# Altium footprint library QFP_Sq_65P_Side_N.PcbLib: 15 footprints
Each footprint in its own frame and in the unit in brackets; x right, y up, seen from the top. Pads: shape width x height; smd on the part's side, far side on the other; paste and mask are expansions set on the pad; w line width, h text height; cw(c..) or ccw(c..) is an arc to the next point about the centre after c.
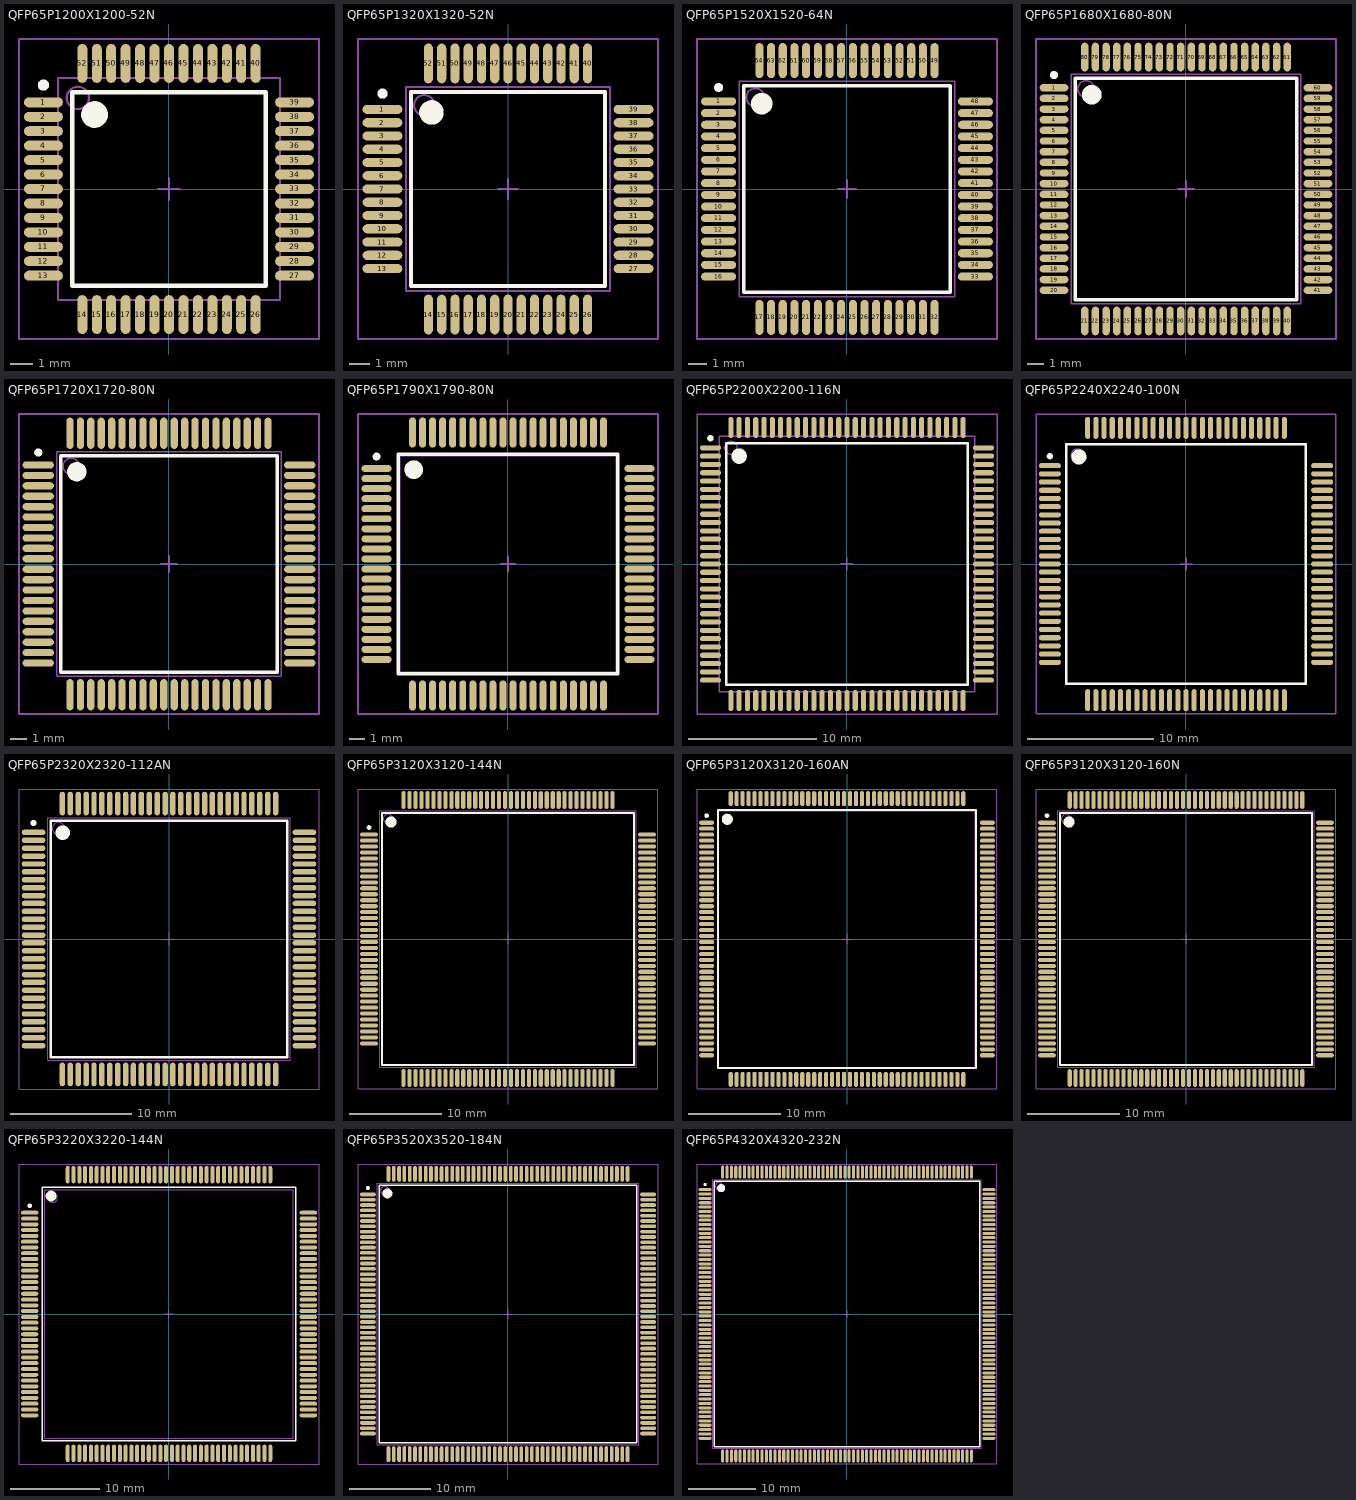
[diagram p0: the footprints below, top view; thin cyan lines are the x and y axes]

## QFP65P1200X1200-52N [mm] "QFP, 52-Leads, Body 10 x 10mm, Pitch 0.65mm, IPC Medium Density"
height 1.7
pads (52):
  oval 1.75x0.45 smd: 1(-5.65,3.9) 2(-5.65,3.25) 3(-5.65,2.6) 4(-5.65,1.95) 5(-5.65,1.3) 6(-5.65,0.65) 7(-5.65,0) 8(-5.65,-0.65) 9(-5.65,-1.3) 10(-5.65,-1.95) 11(-5.65,-2.6) 12(-5.65,-3.25) 13(-5.65,-3.9) 27(5.65,-3.9) 28(5.65,-3.25) 29(5.65,-2.6) 30(5.65,-1.95) 31(5.65,-1.3) 32(5.65,-0.65) 33(5.65,0) 34(5.65,0.65) 35(5.65,1.3) 36(5.65,1.95) 37(5.65,2.6) 38(5.65,3.25) 39(5.65,3.9)
  oval 0.45x1.75 smd: 14(-3.9,-5.65) 15(-3.25,-5.65) 16(-2.6,-5.65) 17(-1.95,-5.65) 18(-1.3,-5.65) 19(-0.65,-5.65) 20(0,-5.65) 21(0.65,-5.65) 22(1.3,-5.65) 23(1.95,-5.65) 24(2.6,-5.65) 25(3.25,-5.65) 26(3.9,-5.65) 40(3.9,5.65) 41(3.25,5.65) 42(2.6,5.65) 43(1.95,5.65) 44(1.3,5.65) 45(0.65,5.65) 46(0,5.65) 47(-0.65,5.65) 48(-1.3,5.65) 49(-1.95,5.65) 50(-2.6,5.65) 51(-3.25,5.65) 52(-3.9,5.65)
Top Overlay:
  circle w0.25: c-5.65,4.675 r0.125
  circle w0.6: c-3.35,3.35 r0.3
  lines w0.2: -4.35,-4.35 -4.35,4.35 4.35,4.35 4.35,-4.35 -4.35,-4.35
Mechanical 13:
  circle w0.1: c-4.1,4.1 r0.5
  lines w0.1: -5,-5 -5,5 5,5 5,-5 -5,-5
Mechanical 15:
  lines w0.1: -0.5,0 0.5,0 ; 0,-0.5 0,0.5 ; -6.75,-6.75 -6.75,6.75 6.75,6.75 6.75,-6.75 -6.75,-6.75
3D body: height 1.7, standoff 0, extent -5,-5 5,5

## QFP65P1320X1320-52N [mm] "QFP, 52-Leads, Body 10 x 10mm, Pitch 0.65mm, IPC Medium Density"
height 2.45
pads (52):
  oval 1.95x0.45 smd: 1(-6.15,3.9) 2(-6.15,3.25) 3(-6.15,2.6) 4(-6.15,1.95) 5(-6.15,1.3) 6(-6.15,0.65) 7(-6.15,0) 8(-6.15,-0.65) 9(-6.15,-1.3) 10(-6.15,-1.95) 11(-6.15,-2.6) 12(-6.15,-3.25) 13(-6.15,-3.9) 27(6.15,-3.9) 28(6.15,-3.25) 29(6.15,-2.6) 30(6.15,-1.95) 31(6.15,-1.3) 32(6.15,-0.65) 33(6.15,0) 34(6.15,0.65) 35(6.15,1.3) 36(6.15,1.95) 37(6.15,2.6) 38(6.15,3.25) 39(6.15,3.9)
  oval 0.45x1.95 smd: 14(-3.9,-6.15) 15(-3.25,-6.15) 16(-2.6,-6.15) 17(-1.95,-6.15) 18(-1.3,-6.15) 19(-0.65,-6.15) 20(0,-6.15) 21(0.65,-6.15) 22(1.3,-6.15) 23(1.95,-6.15) 24(2.6,-6.15) 25(3.25,-6.15) 26(3.9,-6.15) 40(3.9,6.15) 41(3.25,6.15) 42(2.6,6.15) 43(1.95,6.15) 44(1.3,6.15) 45(0.65,6.15) 46(0,6.15) 47(-0.65,6.15) 48(-1.3,6.15) 49(-1.95,6.15) 50(-2.6,6.15) 51(-3.25,6.15) 52(-3.9,6.15)
Top Overlay:
  circle w0.6: c-3.75,3.75 r0.3
  circle w0.25: c-6.15,4.675 r0.125
  lines w0.2: -4.75,-4.75 4.75,-4.75 4.75,4.75 -4.75,4.75 -4.75,-4.75
Mechanical 13:
  circle w0.1: c-4.1,4.1 r0.5
  lines w0.1: -5,-5 5,-5 5,5 -5,5 -5,-5
Mechanical 15:
  lines w0.1: -0.5,0 0.5,0 ; 0,-0.5 0,0.5 ; -7.35,-7.35 7.35,-7.35 7.35,7.35 -7.35,7.35 -7.35,-7.35
3D body: height 2.45, standoff 0, extent -5,-5 5,5

## QFP65P1520X1520-64N [mm] "QFP, 64-Leads, Body 12 x 12 mm, Pitch 0.65mm, IPC Medium Density"
height 2.45
pads (64):
  oval 1.95x0.45 smd: 1(-7.15,4.875) 2(-7.15,4.225) 3(-7.15,3.575) 4(-7.15,2.925) 5(-7.15,2.275) 6(-7.15,1.625) 7(-7.15,0.975) 8(-7.15,0.325) 9(-7.15,-0.325) 10(-7.15,-0.975) 11(-7.15,-1.625) 12(-7.15,-2.275) 13(-7.15,-2.925) 14(-7.15,-3.575) 15(-7.15,-4.225) 16(-7.15,-4.875) 33(7.15,-4.875) 34(7.15,-4.225) 35(7.15,-3.575) 36(7.15,-2.925) 37(7.15,-2.275) 38(7.15,-1.625) 39(7.15,-0.975) 40(7.15,-0.325) 41(7.15,0.325) 42(7.15,0.975) 43(7.15,1.625) 44(7.15,2.275) 45(7.15,2.925) 46(7.15,3.575) 47(7.15,4.225) 48(7.15,4.875)
  oval 0.45x1.95 smd: 17(-4.875,-7.15) 18(-4.225,-7.15) 19(-3.575,-7.15) 20(-2.925,-7.15) 21(-2.275,-7.15) 22(-1.625,-7.15) 23(-0.975,-7.15) 24(-0.325,-7.15) 25(0.325,-7.15) 26(0.975,-7.15) 27(1.625,-7.15) 28(2.275,-7.15) 29(2.925,-7.15) 30(3.575,-7.15) 31(4.225,-7.15) 32(4.875,-7.15) 49(4.875,7.15) 50(4.225,7.15) 51(3.575,7.15) 52(2.925,7.15) 53(2.275,7.15) 54(1.625,7.15) 55(0.975,7.15) 56(0.325,7.15) 57(-0.325,7.15) 58(-0.975,7.15) 59(-1.625,7.15) 60(-2.275,7.15) 61(-2.925,7.15) 62(-3.575,7.15) 63(-4.225,7.15) 64(-4.875,7.15)
Top Overlay:
  circle w0.6: c-4.75,4.75 r0.3
  circle w0.25: c-7.15,5.65 r0.125
  lines w0.2: -5.75,-5.75 5.75,-5.75 5.75,5.75 -5.75,5.75 -5.75,-5.75
Mechanical 13:
  circle w0.1: c-5.1,5.1 r0.5
  lines w0.1: -6,-6 6,-6 6,6 -6,6 -6,-6
Mechanical 15:
  lines w0.1: -0.5,0 0.5,0 ; 0,-0.5 0,0.5 ; -8.35,-8.35 8.35,-8.35 8.35,8.35 -8.35,8.35 -8.35,-8.35
3D body: height 2.45, standoff 0, extent -6,-6 6,6

## QFP65P1680X1680-80N [mm] "80-Pin Quad Flat Pack 0.65 mm Pitch"
height 3.05
pads (80):
  oval 1.75x0.45 smd: 1(-8.05,6.175) 2(-8.05,5.525) 3(-8.05,4.875) 4(-8.05,4.225) 5(-8.05,3.575) 6(-8.05,2.925) 7(-8.05,2.275) 8(-8.05,1.625) 9(-8.05,0.975) 10(-8.05,0.325) 11(-8.05,-0.325) 12(-8.05,-0.975) 13(-8.05,-1.625) 14(-8.05,-2.275) 15(-8.05,-2.925) 16(-8.05,-3.575) 17(-8.05,-4.225) 18(-8.05,-4.875) 19(-8.05,-5.525) 20(-8.05,-6.175) 41(8.05,-6.175) 42(8.05,-5.525) 43(8.05,-4.875) 44(8.05,-4.225) 45(8.05,-3.575) 46(8.05,-2.925) 47(8.05,-2.275) 48(8.05,-1.625) 49(8.05,-0.975) 50(8.05,-0.325) 51(8.05,0.325) 52(8.05,0.975) 53(8.05,1.625) 54(8.05,2.275) 55(8.05,2.925) 56(8.05,3.575) 57(8.05,4.225) 58(8.05,4.875) 59(8.05,5.525) 60(8.05,6.175)
  oval 0.45x1.75 smd: 21(-6.175,-8.05) 22(-5.525,-8.05) 23(-4.875,-8.05) 24(-4.225,-8.05) 25(-3.575,-8.05) 26(-2.925,-8.05) 27(-2.275,-8.05) 28(-1.625,-8.05) 29(-0.975,-8.05) 30(-0.325,-8.05) 31(0.325,-8.05) 32(0.975,-8.05) 33(1.625,-8.05) 34(2.275,-8.05) 35(2.925,-8.05) 36(3.575,-8.05) 37(4.225,-8.05) 38(4.875,-8.05) 39(5.525,-8.05) 40(6.175,-8.05) 61(6.175,8.05) 62(5.525,8.05) 63(4.875,8.05) 64(4.225,8.05) 65(3.575,8.05) 66(2.925,8.05) 67(2.275,8.05) 68(1.625,8.05) 69(0.975,8.05) 70(0.325,8.05) 71(-0.325,8.05) 72(-0.975,8.05) 73(-1.625,8.05) 74(-2.275,8.05) 75(-2.925,8.05) 76(-3.575,8.05) 77(-4.225,8.05) 78(-4.875,8.05) 79(-5.525,8.05) 80(-6.175,8.05)
Top Overlay:
  circle w0.6: c-5.75,5.75 r0.3
  circle w0.25: c-8.05,6.95 r0.125
  lines w0.2: -6.75,-6.75 6.75,-6.75 6.75,6.75 -6.75,6.75 -6.75,-6.75
Mechanical 13:
  circle w0.1: c-6.1,6.1 r0.5
  lines w0.1: -7,-7 7,-7 7,7 -7,7 -7,-7
Mechanical 15:
  lines w0.1: -0.5,0 0.5,0 ; 0,-0.5 0,0.5 ; -9.15,-9.15 9.15,-9.15 9.15,9.15 -9.15,9.15 -9.15,-9.15
3D body: height 3.05, standoff 0, extent -7,-7 7,7

## QFP65P1720X1720-80N [mm] "QFP, 80-Leads, Body 14 x 14mm, Pitch 0.65mm, IPC Medium Density"
height 2.45
pads (80):
  oval 1.95x0.45 smd: 1(-8.15,6.175) 2(-8.15,5.525) 3(-8.15,4.875) 4(-8.15,4.225) 5(-8.15,3.575) 6(-8.15,2.925) 7(-8.15,2.275) 8(-8.15,1.625) 9(-8.15,0.975) 10(-8.15,0.325) 11(-8.15,-0.325) 12(-8.15,-0.975) 13(-8.15,-1.625) 14(-8.15,-2.275) 15(-8.15,-2.925) 16(-8.15,-3.575) 17(-8.15,-4.225) 18(-8.15,-4.875) 19(-8.15,-5.525) 20(-8.15,-6.175) 41(8.15,-6.175) 42(8.15,-5.525) 43(8.15,-4.875) 44(8.15,-4.225) 45(8.15,-3.575) 46(8.15,-2.925) 47(8.15,-2.275) 48(8.15,-1.625) 49(8.15,-0.975) 50(8.15,-0.325) 51(8.15,0.325) 52(8.15,0.975) 53(8.15,1.625) 54(8.15,2.275) 55(8.15,2.925) 56(8.15,3.575) 57(8.15,4.225) 58(8.15,4.875) 59(8.15,5.525) 60(8.15,6.175)
  oval 0.45x1.95 smd: 21(-6.175,-8.15) 22(-5.525,-8.15) 23(-4.875,-8.15) 24(-4.225,-8.15) 25(-3.575,-8.15) 26(-2.925,-8.15) 27(-2.275,-8.15) 28(-1.625,-8.15) 29(-0.975,-8.15) 30(-0.325,-8.15) 31(0.325,-8.15) 32(0.975,-8.15) 33(1.625,-8.15) 34(2.275,-8.15) 35(2.925,-8.15) 36(3.575,-8.15) 37(4.225,-8.15) 38(4.875,-8.15) 39(5.525,-8.15) 40(6.175,-8.15) 61(6.175,8.15) 62(5.525,8.15) 63(4.875,8.15) 64(4.225,8.15) 65(3.575,8.15) 66(2.925,8.15) 67(2.275,8.15) 68(1.625,8.15) 69(0.975,8.15) 70(0.325,8.15) 71(-0.325,8.15) 72(-0.975,8.15) 73(-1.625,8.15) 74(-2.275,8.15) 75(-2.925,8.15) 76(-3.575,8.15) 77(-4.225,8.15) 78(-4.875,8.15) 79(-5.525,8.15) 80(-6.175,8.15)
Top Overlay:
  circle w0.6: c-5.75,5.75 r0.3
  circle w0.25: c-8.15,6.95 r0.125
  lines w0.2: -6.75,-6.75 6.75,-6.75 6.75,6.75 -6.75,6.75 -6.75,-6.75
Mechanical 13:
  circle w0.1: c-6.1,6.1 r0.5
  lines w0.1: -7,-7 7,-7 7,7 -7,7 -7,-7
Mechanical 15:
  lines w0.1: -0.5,0 0.5,0 ; 0,-0.5 0,0.5 ; -9.35,-9.35 9.35,-9.35 9.35,9.35 -9.35,9.35 -9.35,-9.35
3D body: height 2.45, standoff 0, extent -7,-7 7,7

## QFP65P1790X1790-80N [mm] "QFP, 80-Leads, Body 14 x 14mm, Pitch 0.65mm, IPC Medium Density"
height 3.4
pads (80):
  oval 1.95x0.45 smd: 1(-8.5,6.175) 2(-8.5,5.525) 3(-8.5,4.875) 4(-8.5,4.225) 5(-8.5,3.575) 6(-8.5,2.925) 7(-8.5,2.275) 8(-8.5,1.625) 9(-8.5,0.975) 10(-8.5,0.325) 11(-8.5,-0.325) 12(-8.5,-0.975) 13(-8.5,-1.625) 14(-8.5,-2.275) 15(-8.5,-2.925) 16(-8.5,-3.575) 17(-8.5,-4.225) 18(-8.5,-4.875) 19(-8.5,-5.525) 20(-8.5,-6.175) 41(8.5,-6.175) 42(8.5,-5.525) 43(8.5,-4.875) 44(8.5,-4.225) 45(8.5,-3.575) 46(8.5,-2.925) 47(8.5,-2.275) 48(8.5,-1.625) 49(8.5,-0.975) 50(8.5,-0.325) 51(8.5,0.325) 52(8.5,0.975) 53(8.5,1.625) 54(8.5,2.275) 55(8.5,2.925) 56(8.5,3.575) 57(8.5,4.225) 58(8.5,4.875) 59(8.5,5.525) 60(8.5,6.175)
  oval 0.45x1.95 smd: 21(-6.175,-8.5) 22(-5.525,-8.5) 23(-4.875,-8.5) 24(-4.225,-8.5) 25(-3.575,-8.5) 26(-2.925,-8.5) 27(-2.275,-8.5) 28(-1.625,-8.5) 29(-0.975,-8.5) 30(-0.325,-8.5) 31(0.325,-8.5) 32(0.975,-8.5) 33(1.625,-8.5) 34(2.275,-8.5) 35(2.925,-8.5) 36(3.575,-8.5) 37(4.225,-8.5) 38(4.875,-8.5) 39(5.525,-8.5) 40(6.175,-8.5) 61(6.175,8.5) 62(5.525,8.5) 63(4.875,8.5) 64(4.225,8.5) 65(3.575,8.5) 66(2.925,8.5) 67(2.275,8.5) 68(1.625,8.5) 69(0.975,8.5) 70(0.325,8.5) 71(-0.325,8.5) 72(-0.975,8.5) 73(-1.625,8.5) 74(-2.275,8.5) 75(-2.925,8.5) 76(-3.575,8.5) 77(-4.225,8.5) 78(-4.875,8.5) 79(-5.525,8.5) 80(-6.175,8.5)
Top Overlay:
  circle w0.6: c-6.1,6.1 r0.3
  circle w0.25: c-8.5,6.95 r0.125
  lines w0.2: -7.1,-7.1 7.1,-7.1 7.1,7.1 -7.1,7.1 -7.1,-7.1
Mechanical 13:
  circle w0.1: c-6.1,6.1 r0.5
  lines w0.1: -7,-7 7,-7 7,7 -7,7 -7,-7
Mechanical 15:
  lines w0.1: -0.5,0 0.5,0 ; 0,-0.5 0,0.5 ; -9.7,-9.7 9.7,-9.7 9.7,9.7 -9.7,9.7 -9.7,-9.7
3D body: height 3.4, standoff 0, extent -7,-7 7,7

## QFP65P2200X2200-116N [mm] "116-Pin Quad Flat Pack 0.65 mm Pitch"
height 1.7
pads (116):
  oval 1.65x0.4 smd: 1(-10.7,9.1) 2(-10.7,8.45) 3(-10.7,7.8) 4(-10.7,7.15) 5(-10.7,6.5) 6(-10.7,5.85) 7(-10.7,5.2) 8(-10.7,4.55) 9(-10.7,3.9) 10(-10.7,3.25) 11(-10.7,2.6) 12(-10.7,1.95) 13(-10.7,1.3) 14(-10.7,0.65) 15(-10.7,0) 16(-10.7,-0.65) 17(-10.7,-1.3) 18(-10.7,-1.95) 19(-10.7,-2.6) 20(-10.7,-3.25) 21(-10.7,-3.9) 22(-10.7,-4.55) 23(-10.7,-5.2) 24(-10.7,-5.85) 25(-10.7,-6.5) 26(-10.7,-7.15) 27(-10.7,-7.8) 28(-10.7,-8.45) 29(-10.7,-9.1) 59(10.7,-9.1) 60(10.7,-8.45) 61(10.7,-7.8) 62(10.7,-7.15) 63(10.7,-6.5) 64(10.7,-5.85) 65(10.7,-5.2) 66(10.7,-4.55) 67(10.7,-3.9) 68(10.7,-3.25) 69(10.7,-2.6) 70(10.7,-1.95) 71(10.7,-1.3) 72(10.7,-0.65) 73(10.7,0) 74(10.7,0.65) 75(10.7,1.3) 76(10.7,1.95) 77(10.7,2.6) 78(10.7,3.25) 79(10.7,3.9) 80(10.7,4.55) 81(10.7,5.2) 82(10.7,5.85) 83(10.7,6.5) 84(10.7,7.15) 85(10.7,7.8) 86(10.7,8.45) 87(10.7,9.1)
  oval 0.4x1.65 smd: 30(-9.1,-10.7) 31(-8.45,-10.7) 32(-7.8,-10.7) 33(-7.15,-10.7) 34(-6.5,-10.7) 35(-5.85,-10.7) 36(-5.2,-10.7) 37(-4.55,-10.7) 38(-3.9,-10.7) 39(-3.25,-10.7) 40(-2.6,-10.7) 41(-1.95,-10.7) 42(-1.3,-10.7) 43(-0.65,-10.7) 44(0,-10.7) 45(0.65,-10.7) 46(1.3,-10.7) 47(1.95,-10.7) 48(2.6,-10.7) 49(3.25,-10.7) 50(3.9,-10.7) 51(4.55,-10.7) 52(5.2,-10.7) 53(5.85,-10.7) 54(6.5,-10.7) 55(7.15,-10.7) 56(7.8,-10.7) 57(8.45,-10.7) 58(9.1,-10.7) 88(9.1,10.7) 89(8.45,10.7) 90(7.8,10.7) 91(7.15,10.7) 92(6.5,10.7) 93(5.85,10.7) 94(5.2,10.7) 95(4.55,10.7) 96(3.9,10.7) 97(3.25,10.7) 98(2.6,10.7) 99(1.95,10.7) 100(1.3,10.7) 101(0.65,10.7) 102(0,10.7) 103(-0.65,10.7) 104(-1.3,10.7) 105(-1.95,10.7) 106(-2.6,10.7) 107(-3.25,10.7) 108(-3.9,10.7) 109(-4.55,10.7) 110(-5.2,10.7) 111(-5.85,10.7) 112(-6.5,10.7) 113(-7.15,10.7) 114(-7.8,10.7) 115(-8.45,10.7) 116(-9.1,10.7)
Top Overlay:
  circle w0.6: c-8.45,8.45 r0.3
  circle w0.25: c-10.7,9.85 r0.125
  lines w0.2: -9.45,-9.45 9.45,-9.45 9.45,9.45 -9.45,9.45 -9.45,-9.45
Mechanical 13:
  circle w0.1: c-9.1,9.1 r0.5
  lines w0.1: -10,-10 10,-10 10,10 -10,10 -10,-10
Mechanical 15:
  lines w0.1: -0.5,0 0.5,0 ; 0,-0.5 0,0.5 ; -11.75,-11.75 11.75,-11.75 11.75,11.75 -11.75,11.75 -11.75,-11.75
3D body: height 1.7, standoff 0, extent -10,-10 10,10

## QFP65P2240X2240-100N [mm] "100-Pin Quad Flat Pack 0.65 mm Pitch"
height 4.07
pads (100):
  oval 1.75x0.4 smd: 1(-10.8,7.8) 2(-10.8,7.15) 3(-10.8,6.5) 4(-10.8,5.85) 5(-10.8,5.2) 6(-10.8,4.55) 7(-10.8,3.9) 8(-10.8,3.25) 9(-10.8,2.6) 10(-10.8,1.95) 11(-10.8,1.3) 12(-10.8,0.65) 13(-10.8,0) 14(-10.8,-0.65) 15(-10.8,-1.3) 16(-10.8,-1.95) 17(-10.8,-2.6) 18(-10.8,-3.25) 19(-10.8,-3.9) 20(-10.8,-4.55) 21(-10.8,-5.2) 22(-10.8,-5.85) 23(-10.8,-6.5) 24(-10.8,-7.15) 25(-10.8,-7.8) 51(10.8,-7.8) 52(10.8,-7.15) 53(10.8,-6.5) 54(10.8,-5.85) 55(10.8,-5.2) 56(10.8,-4.55) 57(10.8,-3.9) 58(10.8,-3.25) 59(10.8,-2.6) 60(10.8,-1.95) 61(10.8,-1.3) 62(10.8,-0.65) 63(10.8,0) 64(10.8,0.65) 65(10.8,1.3) 66(10.8,1.95) 67(10.8,2.6) 68(10.8,3.25) 69(10.8,3.9) 70(10.8,4.55) 71(10.8,5.2) 72(10.8,5.85) 73(10.8,6.5) 74(10.8,7.15) 75(10.8,7.8)
  oval 0.4x1.75 smd: 26(-7.8,-10.8) 27(-7.15,-10.8) 28(-6.5,-10.8) 29(-5.85,-10.8) 30(-5.2,-10.8) 31(-4.55,-10.8) 32(-3.9,-10.8) 33(-3.25,-10.8) 34(-2.6,-10.8) 35(-1.95,-10.8) 36(-1.3,-10.8) 37(-0.65,-10.8) 38(0,-10.8) 39(0.65,-10.8) 40(1.3,-10.8) 41(1.95,-10.8) 42(2.6,-10.8) 43(3.25,-10.8) 44(3.9,-10.8) 45(4.55,-10.8) 46(5.2,-10.8) 47(5.85,-10.8) 48(6.5,-10.8) 49(7.15,-10.8) 50(7.8,-10.8) 76(7.8,10.8) 77(7.15,10.8) 78(6.5,10.8) 79(5.85,10.8) 80(5.2,10.8) 81(4.55,10.8) 82(3.9,10.8) 83(3.25,10.8) 84(2.6,10.8) 85(1.95,10.8) 86(1.3,10.8) 87(0.65,10.8) 88(0,10.8) 89(-0.65,10.8) 90(-1.3,10.8) 91(-1.95,10.8) 92(-2.6,10.8) 93(-3.25,10.8) 94(-3.9,10.8) 95(-4.55,10.8) 96(-5.2,10.8) 97(-5.85,10.8) 98(-6.5,10.8) 99(-7.15,10.8) 100(-7.8,10.8)
Top Overlay:
  circle w0.6: c-8.5,8.5 r0.3
  circle w0.25: c-10.8,8.55 r0.125
  lines w0.2: -9.5,-9.5 9.5,-9.5 9.5,9.5 -9.5,9.5 -9.5,-9.5
Mechanical 13:
  circle w0.1: c-8.625,8.625 r0.5
  lines w0.1: -9.525,-9.525 9.525,-9.525 9.525,9.525 -9.525,9.525 -9.525,-9.525
Mechanical 15:
  lines w0.1: -0.5,0 0.5,0 ; 0,-0.5 0,0.5 ; -11.9,-11.9 11.9,-11.9 11.9,11.9 -11.9,11.9 -11.9,-11.9
3D body: height 4.07, standoff 0, extent -9.525,-9.525 9.525,9.525

## QFP65P2320X2320-112AN [mm] "QFP, 112-Leads, Body 20 x 20mm, Pitch 0.65mm, IPC Medium Density"
height 3.4
pads (112):
  oval 1.95x0.45 smd: 1(-11.15,8.775) 2(-11.15,8.125) 3(-11.15,7.475) 4(-11.15,6.825) 5(-11.15,6.175) 6(-11.15,5.525) 7(-11.15,4.875) 8(-11.15,4.225) 9(-11.15,3.575) 10(-11.15,2.925) 11(-11.15,2.275) 12(-11.15,1.625) 13(-11.15,0.975) 14(-11.15,0.325) 15(-11.15,-0.325) 16(-11.15,-0.975) 17(-11.15,-1.625) 18(-11.15,-2.275) 19(-11.15,-2.925) 20(-11.15,-3.575) 21(-11.15,-4.225) 22(-11.15,-4.875) 23(-11.15,-5.525) 24(-11.15,-6.175) 25(-11.15,-6.825) 26(-11.15,-7.475) 27(-11.15,-8.125) 28(-11.15,-8.775) 57(11.15,-8.775) 58(11.15,-8.125) 59(11.15,-7.475) 60(11.15,-6.825) 61(11.15,-6.175) 62(11.15,-5.525) 63(11.15,-4.875) 64(11.15,-4.225) 65(11.15,-3.575) 66(11.15,-2.925) 67(11.15,-2.275) 68(11.15,-1.625) 69(11.15,-0.975) 70(11.15,-0.325) 71(11.15,0.325) 72(11.15,0.975) 73(11.15,1.625) 74(11.15,2.275) 75(11.15,2.925) 76(11.15,3.575) 77(11.15,4.225) 78(11.15,4.875) 79(11.15,5.525) 80(11.15,6.175) 81(11.15,6.825) 82(11.15,7.475) 83(11.15,8.125) 84(11.15,8.775)
  oval 0.45x1.95 smd: 29(-8.775,-11.15) 30(-8.125,-11.15) 31(-7.475,-11.15) 32(-6.825,-11.15) 33(-6.175,-11.15) 34(-5.525,-11.15) 35(-4.875,-11.15) 36(-4.225,-11.15) 37(-3.575,-11.15) 38(-2.925,-11.15) 39(-2.275,-11.15) 40(-1.625,-11.15) 41(-0.975,-11.15) 42(-0.325,-11.15) 43(0.325,-11.15) 44(0.975,-11.15) 45(1.625,-11.15) 46(2.275,-11.15) 47(2.925,-11.15) 48(3.575,-11.15) 49(4.225,-11.15) 50(4.875,-11.15) 51(5.525,-11.15) 52(6.175,-11.15) 53(6.825,-11.15) 54(7.475,-11.15) 55(8.125,-11.15) 56(8.775,-11.15) 85(8.775,11.15) 86(8.125,11.15) 87(7.475,11.15) 88(6.825,11.15) 89(6.175,11.15) 90(5.525,11.15) 91(4.875,11.15) 92(4.225,11.15) 93(3.575,11.15) 94(2.925,11.15) 95(2.275,11.15) 96(1.625,11.15) 97(0.975,11.15) 98(0.325,11.15) 99(-0.325,11.15) 100(-0.975,11.15) 101(-1.625,11.15) 102(-2.275,11.15) 103(-2.925,11.15) 104(-3.575,11.15) 105(-4.225,11.15) 106(-4.875,11.15) 107(-5.525,11.15) 108(-6.175,11.15) 109(-6.825,11.15) 110(-7.475,11.15) 111(-8.125,11.15) 112(-8.775,11.15)
Top Overlay:
  circle w0.6: c-8.75,8.75 r0.3
  circle w0.25: c-11.15,9.55 r0.125
  lines w0.2: -9.75,-9.75 9.75,-9.75 9.75,9.75 -9.75,9.75 -9.75,-9.75
Mechanical 13:
  circle w0.1: c-9.1,9.1 r0.5
  lines w0.1: -10,-10 10,-10 10,10 -10,10 -10,-10
Mechanical 15:
  lines w0.1: -0.5,0 0.5,0 ; 0,-0.5 0,0.5 ; -12.35,-12.35 12.35,-12.35 12.35,12.35 -12.35,12.35 -12.35,-12.35
3D body: height 3.4, standoff 0, extent -10,-10 10,10

## QFP65P3120X3120-144N [mm] "QFP, 144-Leads, Body 28 x 28mm, Pitch 0.65mm, IPC Medium Density"
height 4.1
pads (144):
  oval 1.95x0.45 smd: 1(-15.15,11.375) 2(-15.15,10.725) 3(-15.15,10.075) 4(-15.15,9.425) 5(-15.15,8.775) 6(-15.15,8.125) 7(-15.15,7.475) 8(-15.15,6.825) 9(-15.15,6.175) 10(-15.15,5.525) 11(-15.15,4.875) 12(-15.15,4.225) 13(-15.15,3.575) 14(-15.15,2.925) 15(-15.15,2.275) 16(-15.15,1.625) 17(-15.15,0.975) 18(-15.15,0.325) 19(-15.15,-0.325) 20(-15.15,-0.975) 21(-15.15,-1.625) 22(-15.15,-2.275) 23(-15.15,-2.925) 24(-15.15,-3.575) 25(-15.15,-4.225) 26(-15.15,-4.875) 27(-15.15,-5.525) 28(-15.15,-6.175) 29(-15.15,-6.825) 30(-15.15,-7.475) 31(-15.15,-8.125) 32(-15.15,-8.775) 33(-15.15,-9.425) 34(-15.15,-10.075) 35(-15.15,-10.725) 36(-15.15,-11.375) 73(15.15,-11.375) 74(15.15,-10.725) 75(15.15,-10.075) 76(15.15,-9.425) 77(15.15,-8.775) 78(15.15,-8.125) 79(15.15,-7.475) 80(15.15,-6.825) 81(15.15,-6.175) 82(15.15,-5.525) 83(15.15,-4.875) 84(15.15,-4.225) 85(15.15,-3.575) 86(15.15,-2.925) 87(15.15,-2.275) 88(15.15,-1.625) 89(15.15,-0.975) 90(15.15,-0.325) 91(15.15,0.325) 92(15.15,0.975) 93(15.15,1.625) 94(15.15,2.275) 95(15.15,2.925) 96(15.15,3.575) 97(15.15,4.225) 98(15.15,4.875) 99(15.15,5.525) 100(15.15,6.175) 101(15.15,6.825) 102(15.15,7.475) 103(15.15,8.125) 104(15.15,8.775) 105(15.15,9.425) 106(15.15,10.075) 107(15.15,10.725) 108(15.15,11.375)
  oval 0.45x1.95 smd: 37(-11.375,-15.15) 38(-10.725,-15.15) 39(-10.075,-15.15) 40(-9.425,-15.15) 41(-8.775,-15.15) 42(-8.125,-15.15) 43(-7.475,-15.15) 44(-6.825,-15.15) 45(-6.175,-15.15) 46(-5.525,-15.15) 47(-4.875,-15.15) 48(-4.225,-15.15) 49(-3.575,-15.15) 50(-2.925,-15.15) 51(-2.275,-15.15) 52(-1.625,-15.15) 53(-0.975,-15.15) 54(-0.325,-15.15) 55(0.325,-15.15) 56(0.975,-15.15) 57(1.625,-15.15) 58(2.275,-15.15) 59(2.925,-15.15) 60(3.575,-15.15) 61(4.225,-15.15) 62(4.875,-15.15) 63(5.525,-15.15) 64(6.175,-15.15) 65(6.825,-15.15) 66(7.475,-15.15) 67(8.125,-15.15) 68(8.775,-15.15) 69(9.425,-15.15) 70(10.075,-15.15) 71(10.725,-15.15) 72(11.375,-15.15) 109(11.375,15.15) 110(10.725,15.15) 111(10.075,15.15) 112(9.425,15.15) 113(8.775,15.15) 114(8.125,15.15) 115(7.475,15.15) 116(6.825,15.15) 117(6.175,15.15) 118(5.525,15.15) 119(4.875,15.15) 120(4.225,15.15) 121(3.575,15.15) 122(2.925,15.15) 123(2.275,15.15) 124(1.625,15.15) 125(0.975,15.15) 126(0.325,15.15) 127(-0.325,15.15) 128(-0.975,15.15) 129(-1.625,15.15) 130(-2.275,15.15) 131(-2.925,15.15) 132(-3.575,15.15) 133(-4.225,15.15) 134(-4.875,15.15) 135(-5.525,15.15) 136(-6.175,15.15) 137(-6.825,15.15) 138(-7.475,15.15) 139(-8.125,15.15) 140(-8.775,15.15) 141(-9.425,15.15) 142(-10.075,15.15) 143(-10.725,15.15) 144(-11.375,15.15)
Top Overlay:
  circle w0.6: c-12.75,12.75 r0.3
  circle w0.25: c-15.15,12.15 r0.125
  lines w0.2: -13.75,-13.75 13.75,-13.75 13.75,13.75 -13.75,13.75 -13.75,-13.75
Mechanical 13:
  circle w0.1: c-13.1,13.1 r0.5
  lines w0.1: -14,-14 14,-14 14,14 -14,14 -14,-14
Mechanical 15:
  lines w0.1: -0.5,0 0.5,0 ; 0,-0.5 0,0.5 ; -16.35,-16.35 16.35,-16.35 16.35,16.35 -16.35,16.35 -16.35,-16.35
3D body: height 4.1, standoff 0, extent -14,-14 14,14

## QFP65P3120X3120-160AN [mm] "QFP, 160-Leads, Body 28 x 28mm, Pitch 0.65mm, IPC Medium Density"
height 2.79
pads (160):
  oval 1.65x0.45 smd: 1(-15.3,12.675) 2(-15.3,12.025) 3(-15.3,11.375) 4(-15.3,10.725) 5(-15.3,10.075) 6(-15.3,9.425) 7(-15.3,8.775) 8(-15.3,8.125) 9(-15.3,7.475) 10(-15.3,6.825) 11(-15.3,6.175) 12(-15.3,5.525) 13(-15.3,4.875) 14(-15.3,4.225) 15(-15.3,3.575) 16(-15.3,2.925) 17(-15.3,2.275) 18(-15.3,1.625) 19(-15.3,0.975) 20(-15.3,0.325) 21(-15.3,-0.325) 22(-15.3,-0.975) 23(-15.3,-1.625) 24(-15.3,-2.275) 25(-15.3,-2.925) 26(-15.3,-3.575) 27(-15.3,-4.225) 28(-15.3,-4.875) 29(-15.3,-5.525) 30(-15.3,-6.175) 31(-15.3,-6.825) 32(-15.3,-7.475) 33(-15.3,-8.125) 34(-15.3,-8.775) 35(-15.3,-9.425) 36(-15.3,-10.075) 37(-15.3,-10.725) 38(-15.3,-11.375) 39(-15.3,-12.025) 40(-15.3,-12.675) 81(15.3,-12.675) 82(15.3,-12.025) 83(15.3,-11.375) 84(15.3,-10.725) 85(15.3,-10.075) 86(15.3,-9.425) 87(15.3,-8.775) 88(15.3,-8.125) 89(15.3,-7.475) 90(15.3,-6.825) 91(15.3,-6.175) 92(15.3,-5.525) 93(15.3,-4.875) 94(15.3,-4.225) 95(15.3,-3.575) 96(15.3,-2.925) 97(15.3,-2.275) 98(15.3,-1.625) 99(15.3,-0.975) 100(15.3,-0.325) 101(15.3,0.325) 102(15.3,0.975) 103(15.3,1.625) 104(15.3,2.275) 105(15.3,2.925) 106(15.3,3.575) 107(15.3,4.225) 108(15.3,4.875) 109(15.3,5.525) 110(15.3,6.175) 111(15.3,6.825) 112(15.3,7.475) 113(15.3,8.125) 114(15.3,8.775) 115(15.3,9.425) 116(15.3,10.075) 117(15.3,10.725) 118(15.3,11.375) 119(15.3,12.025) 120(15.3,12.675)
  oval 0.45x1.65 smd: 41(-12.675,-15.3) 42(-12.025,-15.3) 43(-11.375,-15.3) 44(-10.725,-15.3) 45(-10.075,-15.3) 46(-9.425,-15.3) 47(-8.775,-15.3) 48(-8.125,-15.3) 49(-7.475,-15.3) 50(-6.825,-15.3) 51(-6.175,-15.3) 52(-5.525,-15.3) 53(-4.875,-15.3) 54(-4.225,-15.3) 55(-3.575,-15.3) 56(-2.925,-15.3) 57(-2.275,-15.3) 58(-1.625,-15.3) 59(-0.975,-15.3) 60(-0.325,-15.3) 61(0.325,-15.3) 62(0.975,-15.3) 63(1.625,-15.3) 64(2.275,-15.3) 65(2.925,-15.3) 66(3.575,-15.3) 67(4.225,-15.3) 68(4.875,-15.3) 69(5.525,-15.3) 70(6.175,-15.3) 71(6.825,-15.3) 72(7.475,-15.3) 73(8.125,-15.3) 74(8.775,-15.3) 75(9.425,-15.3) 76(10.075,-15.3) 77(10.725,-15.3) 78(11.375,-15.3) 79(12.025,-15.3) 80(12.675,-15.3) 121(12.675,15.3) 122(12.025,15.3) 123(11.375,15.3) 124(10.725,15.3) 125(10.075,15.3) 126(9.425,15.3) 127(8.775,15.3) 128(8.125,15.3) 129(7.475,15.3) 130(6.825,15.3) 131(6.175,15.3) 132(5.525,15.3) 133(4.875,15.3) 134(4.225,15.3) 135(3.575,15.3) 136(2.925,15.3) 137(2.275,15.3) 138(1.625,15.3) 139(0.975,15.3) 140(0.325,15.3) 141(-0.325,15.3) 142(-0.975,15.3) 143(-1.625,15.3) 144(-2.275,15.3) 145(-2.925,15.3) 146(-3.575,15.3) 147(-4.225,15.3) 148(-4.875,15.3) 149(-5.525,15.3) 150(-6.175,15.3) 151(-6.825,15.3) 152(-7.475,15.3) 153(-8.125,15.3) 154(-8.775,15.3) 155(-9.425,15.3) 156(-10.075,15.3) 157(-10.725,15.3) 158(-11.375,15.3) 159(-12.025,15.3) 160(-12.675,15.3)
Top Overlay:
  circle w0.6: c-13.05,13.05 r0.3
  circle w0.25: c-15.3,13.45 r0.125
  lines w0.2: -14.05,-14.05 14.05,-14.05 14.05,14.05 -14.05,14.05 -14.05,-14.05
Mechanical 13:
  circle w0.1: c-13.1,13.1 r0.5
  lines w0.1: -14,-14 14,-14 14,14 -14,14 -14,-14
Mechanical 15:
  lines w0.1: -0.5,0 0.5,0 ; 0,-0.5 0,0.5 ; -16.35,-16.35 16.35,-16.35 16.35,16.35 -16.35,16.35 -16.35,-16.35
3D body: height 2.79, standoff 0, extent -14,-14 14,14

## QFP65P3120X3120-160N [mm] "QFP, 160-Leads, Body 28 x 28mm, Pitch 0.65mm, IPC Medium Density"
height 4.1
pads (160):
  oval 1.95x0.45 smd: 1(-15.15,12.675) 2(-15.15,12.025) 3(-15.15,11.375) 4(-15.15,10.725) 5(-15.15,10.075) 6(-15.15,9.425) 7(-15.15,8.775) 8(-15.15,8.125) 9(-15.15,7.475) 10(-15.15,6.825) 11(-15.15,6.175) 12(-15.15,5.525) 13(-15.15,4.875) 14(-15.15,4.225) 15(-15.15,3.575) 16(-15.15,2.925) 17(-15.15,2.275) 18(-15.15,1.625) 19(-15.15,0.975) 20(-15.15,0.325) 21(-15.15,-0.325) 22(-15.15,-0.975) 23(-15.15,-1.625) 24(-15.15,-2.275) 25(-15.15,-2.925) 26(-15.15,-3.575) 27(-15.15,-4.225) 28(-15.15,-4.875) 29(-15.15,-5.525) 30(-15.15,-6.175) 31(-15.15,-6.825) 32(-15.15,-7.475) 33(-15.15,-8.125) 34(-15.15,-8.775) 35(-15.15,-9.425) 36(-15.15,-10.075) 37(-15.15,-10.725) 38(-15.15,-11.375) 39(-15.15,-12.025) 40(-15.15,-12.675) 81(15.15,-12.675) 82(15.15,-12.025) 83(15.15,-11.375) 84(15.15,-10.725) 85(15.15,-10.075) 86(15.15,-9.425) 87(15.15,-8.775) 88(15.15,-8.125) 89(15.15,-7.475) 90(15.15,-6.825) 91(15.15,-6.175) 92(15.15,-5.525) 93(15.15,-4.875) 94(15.15,-4.225) 95(15.15,-3.575) 96(15.15,-2.925) 97(15.15,-2.275) 98(15.15,-1.625) 99(15.15,-0.975) 100(15.15,-0.325) 101(15.15,0.325) 102(15.15,0.975) 103(15.15,1.625) 104(15.15,2.275) 105(15.15,2.925) 106(15.15,3.575) 107(15.15,4.225) 108(15.15,4.875) 109(15.15,5.525) 110(15.15,6.175) 111(15.15,6.825) 112(15.15,7.475) 113(15.15,8.125) 114(15.15,8.775) 115(15.15,9.425) 116(15.15,10.075) 117(15.15,10.725) 118(15.15,11.375) 119(15.15,12.025) 120(15.15,12.675)
  oval 0.45x1.95 smd: 41(-12.675,-15.15) 42(-12.025,-15.15) 43(-11.375,-15.15) 44(-10.725,-15.15) 45(-10.075,-15.15) 46(-9.425,-15.15) 47(-8.775,-15.15) 48(-8.125,-15.15) 49(-7.475,-15.15) 50(-6.825,-15.15) 51(-6.175,-15.15) 52(-5.525,-15.15) 53(-4.875,-15.15) 54(-4.225,-15.15) 55(-3.575,-15.15) 56(-2.925,-15.15) 57(-2.275,-15.15) 58(-1.625,-15.15) 59(-0.975,-15.15) 60(-0.325,-15.15) 61(0.325,-15.15) 62(0.975,-15.15) 63(1.625,-15.15) 64(2.275,-15.15) 65(2.925,-15.15) 66(3.575,-15.15) 67(4.225,-15.15) 68(4.875,-15.15) 69(5.525,-15.15) 70(6.175,-15.15) 71(6.825,-15.15) 72(7.475,-15.15) 73(8.125,-15.15) 74(8.775,-15.15) 75(9.425,-15.15) 76(10.075,-15.15) 77(10.725,-15.15) 78(11.375,-15.15) 79(12.025,-15.15) 80(12.675,-15.15) 121(12.675,15.15) 122(12.025,15.15) 123(11.375,15.15) 124(10.725,15.15) 125(10.075,15.15) 126(9.425,15.15) 127(8.775,15.15) 128(8.125,15.15) 129(7.475,15.15) 130(6.825,15.15) 131(6.175,15.15) 132(5.525,15.15) 133(4.875,15.15) 134(4.225,15.15) 135(3.575,15.15) 136(2.925,15.15) 137(2.275,15.15) 138(1.625,15.15) 139(0.975,15.15) 140(0.325,15.15) 141(-0.325,15.15) 142(-0.975,15.15) 143(-1.625,15.15) 144(-2.275,15.15) 145(-2.925,15.15) 146(-3.575,15.15) 147(-4.225,15.15) 148(-4.875,15.15) 149(-5.525,15.15) 150(-6.175,15.15) 151(-6.825,15.15) 152(-7.475,15.15) 153(-8.125,15.15) 154(-8.775,15.15) 155(-9.425,15.15) 156(-10.075,15.15) 157(-10.725,15.15) 158(-11.375,15.15) 159(-12.025,15.15) 160(-12.675,15.15)
Top Overlay:
  circle w0.6: c-12.75,12.75 r0.3
  circle w0.25: c-15.15,13.45 r0.125
  lines w0.2: -13.75,-13.75 13.75,-13.75 13.75,13.75 -13.75,13.75 -13.75,-13.75
Mechanical 13:
  circle w0.1: c-13.1,13.1 r0.5
  lines w0.1: -14,-14 14,-14 14,14 -14,14 -14,-14
Mechanical 15:
  lines w0.1: -0.5,0 0.5,0 ; 0,-0.5 0,0.5 ; -16.35,-16.35 16.35,-16.35 16.35,16.35 -16.35,16.35 -16.35,-16.35
3D body: height 4.1, standoff 0, extent -14,-14 14,14

## QFP65P3220X3220-144N [mm] "QFP, 144-Leads, Body 28 x 28mm, Pitch 0.65mm, IPC Medium Density"
height 3.93
pads (144):
  oval 1.95x0.45 smd: 1(-15.65,11.375) 2(-15.65,10.725) 3(-15.65,10.075) 4(-15.65,9.425) 5(-15.65,8.775) 6(-15.65,8.125) 7(-15.65,7.475) 8(-15.65,6.825) 9(-15.65,6.175) 10(-15.65,5.525) 11(-15.65,4.875) 12(-15.65,4.225) 13(-15.65,3.575) 14(-15.65,2.925) 15(-15.65,2.275) 16(-15.65,1.625) 17(-15.65,0.975) 18(-15.65,0.325) 19(-15.65,-0.325) 20(-15.65,-0.975) 21(-15.65,-1.625) 22(-15.65,-2.275) 23(-15.65,-2.925) 24(-15.65,-3.575) 25(-15.65,-4.225) 26(-15.65,-4.875) 27(-15.65,-5.525) 28(-15.65,-6.175) 29(-15.65,-6.825) 30(-15.65,-7.475) 31(-15.65,-8.125) 32(-15.65,-8.775) 33(-15.65,-9.425) 34(-15.65,-10.075) 35(-15.65,-10.725) 36(-15.65,-11.375) 73(15.65,-11.375) 74(15.65,-10.725) 75(15.65,-10.075) 76(15.65,-9.425) 77(15.65,-8.775) 78(15.65,-8.125) 79(15.65,-7.475) 80(15.65,-6.825) 81(15.65,-6.175) 82(15.65,-5.525) 83(15.65,-4.875) 84(15.65,-4.225) 85(15.65,-3.575) 86(15.65,-2.925) 87(15.65,-2.275) 88(15.65,-1.625) 89(15.65,-0.975) 90(15.65,-0.325) 91(15.65,0.325) 92(15.65,0.975) 93(15.65,1.625) 94(15.65,2.275) 95(15.65,2.925) 96(15.65,3.575) 97(15.65,4.225) 98(15.65,4.875) 99(15.65,5.525) 100(15.65,6.175) 101(15.65,6.825) 102(15.65,7.475) 103(15.65,8.125) 104(15.65,8.775) 105(15.65,9.425) 106(15.65,10.075) 107(15.65,10.725) 108(15.65,11.375)
  oval 0.45x1.95 smd: 37(-11.375,-15.65) 38(-10.725,-15.65) 39(-10.075,-15.65) 40(-9.425,-15.65) 41(-8.775,-15.65) 42(-8.125,-15.65) 43(-7.475,-15.65) 44(-6.825,-15.65) 45(-6.175,-15.65) 46(-5.525,-15.65) 47(-4.875,-15.65) 48(-4.225,-15.65) 49(-3.575,-15.65) 50(-2.925,-15.65) 51(-2.275,-15.65) 52(-1.625,-15.65) 53(-0.975,-15.65) 54(-0.325,-15.65) 55(0.325,-15.65) 56(0.975,-15.65) 57(1.625,-15.65) 58(2.275,-15.65) 59(2.925,-15.65) 60(3.575,-15.65) 61(4.225,-15.65) 62(4.875,-15.65) 63(5.525,-15.65) 64(6.175,-15.65) 65(6.825,-15.65) 66(7.475,-15.65) 67(8.125,-15.65) 68(8.775,-15.65) 69(9.425,-15.65) 70(10.075,-15.65) 71(10.725,-15.65) 72(11.375,-15.65) 109(11.375,15.65) 110(10.725,15.65) 111(10.075,15.65) 112(9.425,15.65) 113(8.775,15.65) 114(8.125,15.65) 115(7.475,15.65) 116(6.825,15.65) 117(6.175,15.65) 118(5.525,15.65) 119(4.875,15.65) 120(4.225,15.65) 121(3.575,15.65) 122(2.925,15.65) 123(2.275,15.65) 124(1.625,15.65) 125(0.975,15.65) 126(0.325,15.65) 127(-0.325,15.65) 128(-0.975,15.65) 129(-1.625,15.65) 130(-2.275,15.65) 131(-2.925,15.65) 132(-3.575,15.65) 133(-4.225,15.65) 134(-4.875,15.65) 135(-5.525,15.65) 136(-6.175,15.65) 137(-6.825,15.65) 138(-7.475,15.65) 139(-8.125,15.65) 140(-8.775,15.65) 141(-9.425,15.65) 142(-10.075,15.65) 143(-10.725,15.65) 144(-11.375,15.65)
Top Overlay:
  circle w0.6: c-13.25,13.25 r0.3
  circle w0.25: c-15.65,12.15 r0.125
  lines w0.2: -14.25,-14.25 14.25,-14.25 14.25,14.25 -14.25,14.25 -14.25,-14.25
Mechanical 13:
  circle w0.1: c-13.035,13.035 r0.5
  lines w0.1: -13.935,-13.935 13.935,-13.935 13.935,13.935 -13.935,13.935 -13.935,-13.935
Mechanical 15:
  lines w0.1: -0.5,0 0.5,0 ; 0,-0.5 0,0.5 ; -16.85,-16.85 16.85,-16.85 16.85,16.85 -16.85,16.85 -16.85,-16.85
3D body: height 3.93, standoff 0, extent -13.935,-13.935 13.935,13.935

## QFP65P3520X3520-184N [mm] "QFP, 184-Leads, Body 32 x 32 mm, Pitch 0.65mm, IPC Medium Density"
height 4.2
pads (184):
  oval 1.95x0.45 smd: 1(-17.15,14.625) 2(-17.15,13.975) 3(-17.15,13.325) 4(-17.15,12.675) 5(-17.15,12.025) 6(-17.15,11.375) 7(-17.15,10.725) 8(-17.15,10.075) 9(-17.15,9.425) 10(-17.15,8.775) 11(-17.15,8.125) 12(-17.15,7.475) 13(-17.15,6.825) 14(-17.15,6.175) 15(-17.15,5.525) 16(-17.15,4.875) 17(-17.15,4.225) 18(-17.15,3.575) 19(-17.15,2.925) 20(-17.15,2.275) 21(-17.15,1.625) 22(-17.15,0.975) 23(-17.15,0.325) 24(-17.15,-0.325) 25(-17.15,-0.975) 26(-17.15,-1.625) 27(-17.15,-2.275) 28(-17.15,-2.925) 29(-17.15,-3.575) 30(-17.15,-4.225) 31(-17.15,-4.875) 32(-17.15,-5.525) 33(-17.15,-6.175) 34(-17.15,-6.825) 35(-17.15,-7.475) 36(-17.15,-8.125) 37(-17.15,-8.775) 38(-17.15,-9.425) 39(-17.15,-10.075) 40(-17.15,-10.725) 41(-17.15,-11.375) 42(-17.15,-12.025) 43(-17.15,-12.675) 44(-17.15,-13.325) 45(-17.15,-13.975) 46(-17.15,-14.625) 93(17.15,-14.625) 94(17.15,-13.975) 95(17.15,-13.325) 96(17.15,-12.675) 97(17.15,-12.025) 98(17.15,-11.375) 99(17.15,-10.725) 100(17.15,-10.075) 101(17.15,-9.425) 102(17.15,-8.775) 103(17.15,-8.125) 104(17.15,-7.475) 105(17.15,-6.825) 106(17.15,-6.175) 107(17.15,-5.525) 108(17.15,-4.875) 109(17.15,-4.225) 110(17.15,-3.575) 111(17.15,-2.925) 112(17.15,-2.275) 113(17.15,-1.625) 114(17.15,-0.975) 115(17.15,-0.325) 116(17.15,0.325) 117(17.15,0.975) 118(17.15,1.625) 119(17.15,2.275) 120(17.15,2.925) 121(17.15,3.575) 122(17.15,4.225) 123(17.15,4.875) 124(17.15,5.525) 125(17.15,6.175) 126(17.15,6.825) 127(17.15,7.475) 128(17.15,8.125) 129(17.15,8.775) 130(17.15,9.425) 131(17.15,10.075) 132(17.15,10.725) 133(17.15,11.375) 134(17.15,12.025) 135(17.15,12.675) 136(17.15,13.325) 137(17.15,13.975) 138(17.15,14.625)
  oval 0.45x1.95 smd: 47(-14.625,-17.15) 48(-13.975,-17.15) 49(-13.325,-17.15) 50(-12.675,-17.15) 51(-12.025,-17.15) 52(-11.375,-17.15) 53(-10.725,-17.15) 54(-10.075,-17.15) 55(-9.425,-17.15) 56(-8.775,-17.15) 57(-8.125,-17.15) 58(-7.475,-17.15) 59(-6.825,-17.15) 60(-6.175,-17.15) 61(-5.525,-17.15) 62(-4.875,-17.15) 63(-4.225,-17.15) 64(-3.575,-17.15) 65(-2.925,-17.15) 66(-2.275,-17.15) 67(-1.625,-17.15) 68(-0.975,-17.15) 69(-0.325,-17.15) 70(0.325,-17.15) 71(0.975,-17.15) 72(1.625,-17.15) 73(2.275,-17.15) 74(2.925,-17.15) 75(3.575,-17.15) 76(4.225,-17.15) 77(4.875,-17.15) 78(5.525,-17.15) 79(6.175,-17.15) 80(6.825,-17.15) 81(7.475,-17.15) 82(8.125,-17.15) 83(8.775,-17.15) 84(9.425,-17.15) 85(10.075,-17.15) 86(10.725,-17.15) 87(11.375,-17.15) 88(12.025,-17.15) 89(12.675,-17.15) 90(13.325,-17.15) 91(13.975,-17.15) 92(14.625,-17.15) 139(14.625,17.15) 140(13.975,17.15) 141(13.325,17.15) 142(12.675,17.15) 143(12.025,17.15) 144(11.375,17.15) 145(10.725,17.15) 146(10.075,17.15) 147(9.425,17.15) 148(8.775,17.15) 149(8.125,17.15) 150(7.475,17.15) 151(6.825,17.15) 152(6.175,17.15) 153(5.525,17.15) 154(4.875,17.15) 155(4.225,17.15) 156(3.575,17.15) 157(2.925,17.15) 158(2.275,17.15) 159(1.625,17.15) 160(0.975,17.15) 161(0.325,17.15) 162(-0.325,17.15) 163(-0.975,17.15) 164(-1.625,17.15) 165(-2.275,17.15) 166(-2.925,17.15) 167(-3.575,17.15) 168(-4.225,17.15) 169(-4.875,17.15) 170(-5.525,17.15) 171(-6.175,17.15) 172(-6.825,17.15) 173(-7.475,17.15) 174(-8.125,17.15) 175(-8.775,17.15) 176(-9.425,17.15) 177(-10.075,17.15) 178(-10.725,17.15) 179(-11.375,17.15) 180(-12.025,17.15) 181(-12.675,17.15) 182(-13.325,17.15) 183(-13.975,17.15) 184(-14.625,17.15)
Top Overlay:
  circle w0.6: c-14.75,14.75 r0.3
  circle w0.25: c-17.15,15.4 r0.125
  lines w0.2: -15.75,-15.75 15.75,-15.75 15.75,15.75 -15.75,15.75 -15.75,-15.75
Mechanical 13:
  circle w0.1: c-15.1,15.1 r0.5
  lines w0.1: -16,-16 16,-16 16,16 -16,16 -16,-16
Mechanical 15:
  lines w0.1: -0.5,0 0.5,0 ; 0,-0.5 0,0.5 ; -18.35,-18.35 18.35,-18.35 18.35,18.35 -18.35,18.35 -18.35,-18.35
3D body: height 4.2, standoff 0, extent -16,-16 16,16

## QFP65P4320X4320-232N [mm] "QFP, 232-Leads, Body 40 x 40 mm, Pitch 0.65mm, IPC Medium Density"
height 4.2
pads (232):
  oval 1.95x0.45 smd: 1(-21.15,18.525) 2(-21.15,17.875) 3(-21.15,17.225) 4(-21.15,16.575) 5(-21.15,15.925) 6(-21.15,15.275) 7(-21.15,14.625) 8(-21.15,13.975) 9(-21.15,13.325) 10(-21.15,12.675) 11(-21.15,12.025) 12(-21.15,11.375) 13(-21.15,10.725) 14(-21.15,10.075) 15(-21.15,9.425) 16(-21.15,8.775) 17(-21.15,8.125) 18(-21.15,7.475) 19(-21.15,6.825) 20(-21.15,6.175) 21(-21.15,5.525) 22(-21.15,4.875) 23(-21.15,4.225) 24(-21.15,3.575) 25(-21.15,2.925) 26(-21.15,2.275) 27(-21.15,1.625) 28(-21.15,0.975) 29(-21.15,0.325) 30(-21.15,-0.325) 31(-21.15,-0.975) 32(-21.15,-1.625) 33(-21.15,-2.275) 34(-21.15,-2.925) 35(-21.15,-3.575) 36(-21.15,-4.225) 37(-21.15,-4.875) 38(-21.15,-5.525) 39(-21.15,-6.175) 40(-21.15,-6.825) 41(-21.15,-7.475) 42(-21.15,-8.125) 43(-21.15,-8.775) 44(-21.15,-9.425) 45(-21.15,-10.075) 46(-21.15,-10.725) 47(-21.15,-11.375) 48(-21.15,-12.025) 49(-21.15,-12.675) 50(-21.15,-13.325) 51(-21.15,-13.975) 52(-21.15,-14.625) 53(-21.15,-15.275) 54(-21.15,-15.925) 55(-21.15,-16.575) 56(-21.15,-17.225) 57(-21.15,-17.875) 58(-21.15,-18.525) 117(21.15,-18.525) 118(21.15,-17.875) 119(21.15,-17.225) 120(21.15,-16.575) 121(21.15,-15.925) 122(21.15,-15.275) 123(21.15,-14.625) 124(21.15,-13.975) 125(21.15,-13.325) 126(21.15,-12.675) 127(21.15,-12.025) 128(21.15,-11.375) 129(21.15,-10.725) 130(21.15,-10.075) 131(21.15,-9.425) 132(21.15,-8.775) 133(21.15,-8.125) 134(21.15,-7.475) 135(21.15,-6.825) 136(21.15,-6.175) 137(21.15,-5.525) 138(21.15,-4.875) 139(21.15,-4.225) 140(21.15,-3.575) 141(21.15,-2.925) 142(21.15,-2.275) 143(21.15,-1.625) 144(21.15,-0.975) 145(21.15,-0.325) 146(21.15,0.325) 147(21.15,0.975) 148(21.15,1.625) 149(21.15,2.275) 150(21.15,2.925) 151(21.15,3.575) 152(21.15,4.225) 153(21.15,4.875) 154(21.15,5.525) 155(21.15,6.175) 156(21.15,6.825) 157(21.15,7.475) 158(21.15,8.125) 159(21.15,8.775) 160(21.15,9.425) 161(21.15,10.075) 162(21.15,10.725) 163(21.15,11.375) 164(21.15,12.025) 165(21.15,12.675) 166(21.15,13.325) 167(21.15,13.975) 168(21.15,14.625) 169(21.15,15.275) 170(21.15,15.925) 171(21.15,16.575) 172(21.15,17.225) 173(21.15,17.875) 174(21.15,18.525)
  oval 0.45x1.95 smd: 59(-18.525,-21.15) 60(-17.875,-21.15) 61(-17.225,-21.15) 62(-16.575,-21.15) 63(-15.925,-21.15) 64(-15.275,-21.15) 65(-14.625,-21.15) 66(-13.975,-21.15) 67(-13.325,-21.15) 68(-12.675,-21.15) 69(-12.025,-21.15) 70(-11.375,-21.15) 71(-10.725,-21.15) 72(-10.075,-21.15) 73(-9.425,-21.15) 74(-8.775,-21.15) 75(-8.125,-21.15) 76(-7.475,-21.15) 77(-6.825,-21.15) 78(-6.175,-21.15) 79(-5.525,-21.15) 80(-4.875,-21.15) 81(-4.225,-21.15) 82(-3.575,-21.15) 83(-2.925,-21.15) 84(-2.275,-21.15) 85(-1.625,-21.15) 86(-0.975,-21.15) 87(-0.325,-21.15) 88(0.325,-21.15) 89(0.975,-21.15) 90(1.625,-21.15) 91(2.275,-21.15) 92(2.925,-21.15) 93(3.575,-21.15) 94(4.225,-21.15) 95(4.875,-21.15) 96(5.525,-21.15) 97(6.175,-21.15) 98(6.825,-21.15) 99(7.475,-21.15) 100(8.125,-21.15) 101(8.775,-21.15) 102(9.425,-21.15) 103(10.075,-21.15) 104(10.725,-21.15) 105(11.375,-21.15) 106(12.025,-21.15) 107(12.675,-21.15) 108(13.325,-21.15) 109(13.975,-21.15) 110(14.625,-21.15) 111(15.275,-21.15) 112(15.925,-21.15) 113(16.575,-21.15) 114(17.225,-21.15) 115(17.875,-21.15) 116(18.525,-21.15) 175(18.525,21.15) 176(17.875,21.15) 177(17.225,21.15) 178(16.575,21.15) 179(15.925,21.15) 180(15.275,21.15) 181(14.625,21.15) 182(13.975,21.15) 183(13.325,21.15) 184(12.675,21.15) 185(12.025,21.15) 186(11.375,21.15) 187(10.725,21.15) 188(10.075,21.15) 189(9.425,21.15) 190(8.775,21.15) 191(8.125,21.15) 192(7.475,21.15) 193(6.825,21.15) 194(6.175,21.15) 195(5.525,21.15) 196(4.875,21.15) 197(4.225,21.15) 198(3.575,21.15) 199(2.925,21.15) 200(2.275,21.15) 201(1.625,21.15) 202(0.975,21.15) 203(0.325,21.15) 204(-0.325,21.15) 205(-0.975,21.15) 206(-1.625,21.15) 207(-2.275,21.15) 208(-2.925,21.15) 209(-3.575,21.15) 210(-4.225,21.15) 211(-4.875,21.15) 212(-5.525,21.15) 213(-6.175,21.15) 214(-6.825,21.15) 215(-7.475,21.15) 216(-8.125,21.15) 217(-8.775,21.15) 218(-9.425,21.15) 219(-10.075,21.15) 220(-10.725,21.15) 221(-11.375,21.15) 222(-12.025,21.15) 223(-12.675,21.15) 224(-13.325,21.15) 225(-13.975,21.15) 226(-14.625,21.15) 227(-15.275,21.15) 228(-15.925,21.15) 229(-16.575,21.15) 230(-17.225,21.15) 231(-17.875,21.15) 232(-18.525,21.15)
Top Overlay:
  circle w0.6: c-18.75,18.75 r0.3
  circle w0.25: c-21.15,19.3 r0.125
  lines w0.2: -19.75,-19.75 19.75,-19.75 19.75,19.75 -19.75,19.75 -19.75,-19.75
Mechanical 13:
  circle w0.1: c-19.1,19.1 r0.5
  lines w0.1: -20,-20 20,-20 20,20 -20,20 -20,-20
Mechanical 15:
  lines w0.1: -0.5,0 0.5,0 ; 0,-0.5 0,0.5 ; -22.35,-22.35 22.35,-22.35 22.35,22.35 -22.35,22.35 -22.35,-22.35
3D body: height 4.2, standoff 0, extent -20,-20 20,20